# EAGLE library part XC3S100EVQ100 (library xilinx_spartan3_virtex4_and_5)
Xilinx FPGA
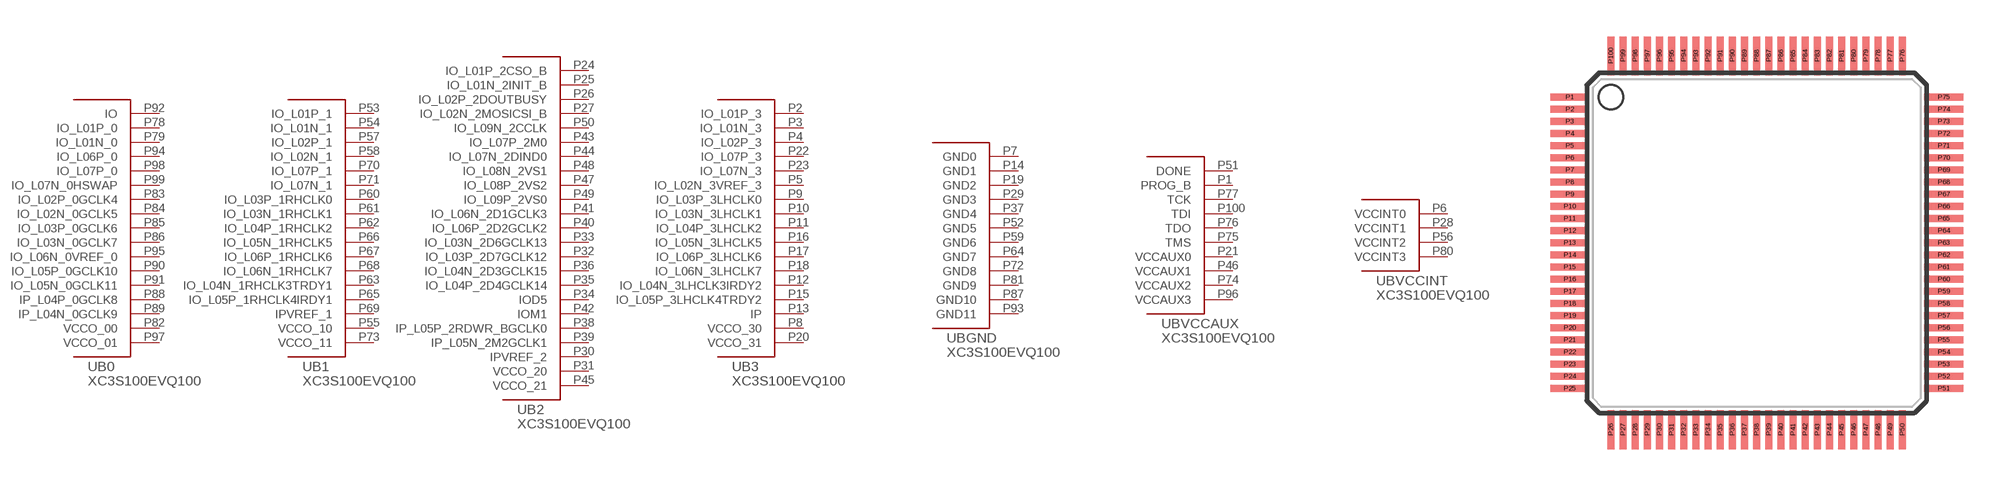
[diagram p43: symbol with the pads of VQ100; footprint VQ100]

Designator prefix U; gates B0=XC3S100EVQ100_0 B1=XC3S100EVQ100_1 B2=XC3S100EVQ100_2 B3=XC3S100EVQ100_3 BGND=XC3S100EVQ100_GND BVCCAUX=XC3S100EVQ100_VCCAUX BVCCINT=XC3S100EVQ100_VCCINT

## XC3S100EVQ100  [VQ100]
P1  BVCCAUX:PROG_B
P2  B3:IO_L01P_3
P3  B3:IO_L01N_3
P4  B3:IO_L02P_3
P5  B3:IO_L02N_3VREF_3
P6  BVCCINT:VCCINT0  pas
P7  BGND:GND0  pas
P8  B3:VCCO_30  pas
P9  B3:IO_L03P_3LHCLK0
P10  B3:IO_L03N_3LHCLK1
P11  B3:IO_L04P_3LHCLK2
P12  B3:IO_L04N_3LHCLK3IRDY2
P13  B3:IP
P14  BGND:GND1  pas
P15  B3:IO_L05P_3LHCLK4TRDY2
P16  B3:IO_L05N_3LHCLK5
P17  B3:IO_L06P_3LHCLK6
P18  B3:IO_L06N_3LHCLK7
P19  BGND:GND2  pas
P20  B3:VCCO_31  pas
P21  BVCCAUX:VCCAUX0  pas
P22  B3:IO_L07P_3
P23  B3:IO_L07N_3
P24  B2:IO_L01P_2CSO_B
P25  B2:IO_L01N_2INIT_B
P26  B2:IO_L02P_2DOUTBUSY
P27  B2:IO_L02N_2MOSICSI_B
P28  BVCCINT:VCCINT1  pas
P29  BGND:GND3  pas
P30  B2:IPVREF_2
P31  B2:VCCO_20  pas
P32  B2:IO_L03P_2D7GCLK12
P33  B2:IO_L03N_2D6GCLK13
P34  B2:IOD5
P35  B2:IO_L04P_2D4GCLK14
P36  B2:IO_L04N_2D3GCLK15
P37  BGND:GND4  pas
P38  B2:IP_L05P_2RDWR_BGCLK0
P39  B2:IP_L05N_2M2GCLK1
P40  B2:IO_L06P_2D2GCLK2
P41  B2:IO_L06N_2D1GCLK3
P42  B2:IOM1
P43  B2:IO_L07P_2M0
P44  B2:IO_L07N_2DIND0
P45  B2:VCCO_21  pas
P46  BVCCAUX:VCCAUX1  pas
P47  B2:IO_L08P_2VS2
P48  B2:IO_L08N_2VS1
P49  B2:IO_L09P_2VS0
P50  B2:IO_L09N_2CCLK
P51  BVCCAUX:DONE
P52  BGND:GND5  pas
P53  B1:IO_L01P_1
P54  B1:IO_L01N_1
P55  B1:VCCO_10  pas
P56  BVCCINT:VCCINT2  pas
P57  B1:IO_L02P_1
P58  B1:IO_L02N_1
P59  BGND:GND6  pas
P60  B1:IO_L03P_1RHCLK0
P61  B1:IO_L03N_1RHCLK1
P62  B1:IO_L04P_1RHCLK2
P63  B1:IO_L04N_1RHCLK3TRDY1
P64  BGND:GND7  pas
P65  B1:IO_L05P_1RHCLK4IRDY1
P66  B1:IO_L05N_1RHCLK5
P67  B1:IO_L06P_1RHCLK6
P68  B1:IO_L06N_1RHCLK7
P69  B1:IPVREF_1
P70  B1:IO_L07P_1
P71  B1:IO_L07N_1
P72  BGND:GND8  pas
P73  B1:VCCO_11  pas
P74  BVCCAUX:VCCAUX2  pas
P75  BVCCAUX:TMS
P76  BVCCAUX:TDO
P77  BVCCAUX:TCK
P78  B0:IO_L01P_0
P79  B0:IO_L01N_0
P80  BVCCINT:VCCINT3  pas
P81  BGND:GND9  pas
P82  B0:VCCO_00  pas
P83  B0:IO_L02P_0GCLK4
P84  B0:IO_L02N_0GCLK5
P85  B0:IO_L03P_0GCLK6
P86  B0:IO_L03N_0GCLK7
P87  BGND:GND10  pas
P88  B0:IP_L04P_0GCLK8
P89  B0:IP_L04N_0GCLK9
P90  B0:IO_L05P_0GCLK10
P91  B0:IO_L05N_0GCLK11
P92  B0:IO
P93  BGND:GND11  pas
P94  B0:IO_L06P_0
P95  B0:IO_L06N_0VREF_0
P96  BVCCAUX:VCCAUX3  pas
P97  B0:VCCO_01  pas
P98  B0:IO_L07P_0
P99  B0:IO_L07N_0HSWAP
P100  BVCCAUX:TDI

## Footprint VQ100 (pad centres in mm)
smd 1.6 x 0.3: P1 -7.7,6; P2 -7.7,5.5; P3 -7.7,5; P4 -7.7,4.5; P5 -7.7,4; P6 -7.7,3.5; P7 -7.7,3; P8 -7.7,2.5; P9 -7.7,2; P10 -7.7,1.5; P11 -7.7,1; P12 -7.7,0.5; P13 -7.7,0; P14 -7.7,-0.5; P15 -7.7,-1; P16 -7.7,-1.5; P17 -7.7,-2; P18 -7.7,-2.5; P19 -7.7,-3; P20 -7.7,-3.5; P21 -7.7,-4; P22 -7.7,-4.5; P23 -7.7,-5; P24 -7.7,-5.5; P25 -7.7,-6; P51 7.7,-6; P52 7.7,-5.5; P53 7.7,-5; P54 7.7,-4.5; P55 7.7,-4; P56 7.7,-3.5; P57 7.7,-3; P58 7.7,-2.5; P59 7.7,-2; P60 7.7,-1.5; P61 7.7,-1; P62 7.7,-0.5; P63 7.7,0; P64 7.7,0.5; P65 7.7,1; P66 7.7,1.5; P67 7.7,2; P68 7.7,2.5; P69 7.7,3; P70 7.7,3.5; P71 7.7,4; P72 7.7,4.5; P73 7.7,5; P74 7.7,5.5; P75 7.7,6
smd 0.3 x 1.6: P26 -6,-7.7; P27 -5.5,-7.7; P28 -5,-7.7; P29 -4.5,-7.7; P30 -4,-7.7; P31 -3.5,-7.7; P32 -3,-7.7; P33 -2.5,-7.7; P34 -2,-7.7; P35 -1.5,-7.7; P36 -1,-7.7; P37 -0.5,-7.7; P38 0,-7.7; P39 0.5,-7.7; P40 1,-7.7; P41 1.5,-7.7; P42 2,-7.7; P43 2.5,-7.7; P44 3,-7.7; P45 3.5,-7.7; P46 4,-7.7; P47 4.5,-7.7; P48 5,-7.7; P49 5.5,-7.7; P50 6,-7.7; P76 6,7.7; P77 5.5,7.7; P78 5,7.7; P79 4.5,7.7; P80 4,7.7; P81 3.5,7.7; P82 3,7.7; P83 2.5,7.7; P84 2,7.7; P85 1.5,7.7; P86 1,7.7; P87 0.5,7.7; P88 0,7.7; P89 -0.5,7.7; P90 -1,7.7; P91 -1.5,7.7; P92 -2,7.7; P93 -2.5,7.7; P94 -3,7.7; P95 -3.5,7.7; P96 -4,7.7; P97 -4.5,7.7; P98 -5,7.7; P99 -5.5,7.7; P100 -6,7.7